# EAGLE library part AMG8833_HEAT (library Richard_Boards)
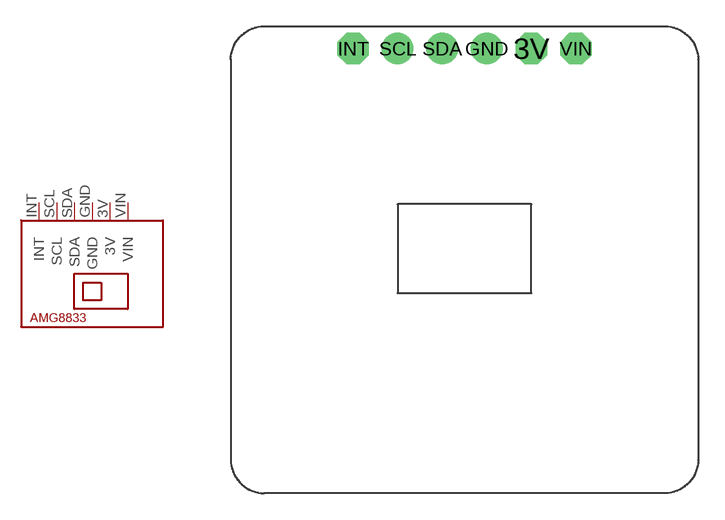
[diagram p9: symbol with the pads of AMG8833_HEAT; footprint AMG8833_HEAT]

Designator prefix -

## AMG8833_HEAT  [AMG8833_HEAT]
3V  3V  pas
GND  GND  pas
INT  INT  pas
SCL  SCL  pas
SDA  SDA  pas
VIN  VIN  pas

## Footprint AMG8833_HEAT (pad centres in mm)
drill 1.2 octagon: 3V 3.81,11.43; INT -6.35,11.43; VIN 6.35,11.43
drill 1.2: GND 1.27,11.43; SCL -3.81,11.43; SDA -1.27,11.43